# Altium footprint library SMD_components.PcbLib: 42 footprints (part 3 of 3)
Each footprint in its own frame and in the unit in brackets; x right, y up, seen from the top. Pads: shape width x height; smd on the part's side, far side on the other; paste and mask are expansions set on the pad; w line width, h text height; cw(c..) or ccw(c..) is an arc to the next point about the centre after c.
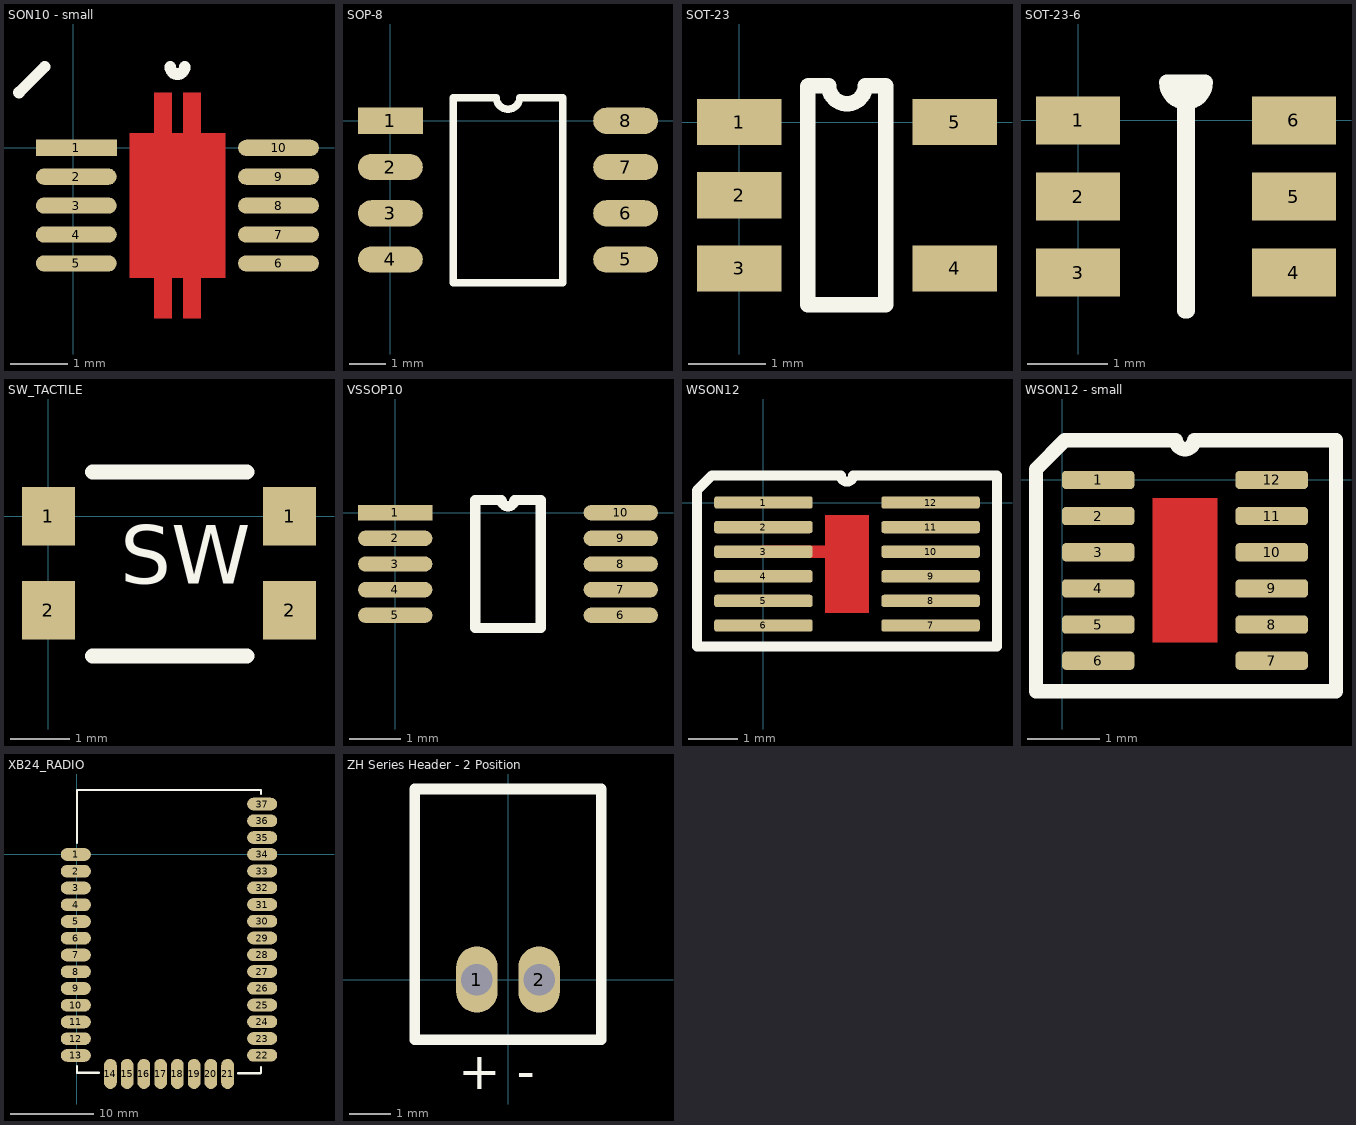
[diagram p2: the footprints below, top view; thin cyan lines are the x and y axes]

## SON10 - small [mm]
pads (10):
  rect 1.4x0.28 smd: 1(0.05,0)
  oval 1.4x0.28 smd: 2(0.05,-0.5) 3(0.05,-1) 4(0.05,-1.5) 5(0.05,-2) 6(3.55,-2) 7(3.55,-1.5) 8(3.55,-1) 9(3.55,-0.5) 10(3.55,0)
Top Layer:
  region: 1.4,0.25 1.4,0.95 1.7,0.95 1.7,0.25 1.9,0.25 1.9,0.95 2.2,0.95 2.2,0.25 2.625,0.25 2.625,-2.25 2.2,-2.25 2.2,-2.95 1.9,-2.95 1.9,-2.25 1.7,-2.25 1.7,-2.95 1.4,-2.95 1.4,-2.25 0.975,-2.25 0.975,0.25
Top Overlay:
  lines w0.2: -0.942,0.958 -0.5,1.4 ; 1.675,1.4 ccw(c1.8,1.4) 1.925,1.4
Top Paste:
  rectangle: 1.92,0.38 2.18,0.88
  rectangle: 1.42,-2.88 1.68,-2.38
  rectangle: 1.92,-2.88 2.18,-2.38
  rectangle: 1.42,0.38 1.68,0.88
  rectangle: 1.9,-2.16 2.59,-1.11
  rectangle: 1.01,-2.16 1.69,-1.11
  rectangle: 1.91,-0.89 2.59,0.16
  rectangle: 1.01,-0.89 1.69,0.16
3D body: height 2, standoff 0, extent 0.005,-2.951 3.647,0.963

## SOP-8 [mm]
pads (8):
  rect 1.78x0.72 smd: 1(0,0)
  oval 1.78x0.72 smd: 2(0,-1.27) 3(0,-2.54) 4(0,-3.81) 5(6.46,-3.81) 6(6.46,-2.54) 7(6.46,-1.27) 8(6.46,0)
Top Overlay:
  lines w0.2: 1.725,-4.445 1.725,0.635 2.912,0.635 ccw(c3.23,0.635) 3.547,0.635 4.735,0.635 4.735,-4.445 1.725,-4.445
3D body: height 2, standoff 0, extent 1.725,-4.445 4.735,0.635

## SOT-23 [mm]
pads (5):
  rect 1.1x0.6 smd: 1(0,0) 2(0,-0.95) 3(0,-1.9) 4(2.8,-1.9) 5(2.8,0)
Top Overlay:
  lines w0.2: 0.889,-2.375 1.905,-2.375 1.905,0.475 1.637,0.475 cw(c1.4,0.475) 1.162,0.475 0.895,0.475 0.889,0.469 0.889,-2.375
3D body: height 2, standoff 0, extent 0.723,-2.188 2.078,0.243

## SOT-23-6 [mm]
pads (6):
  rect 1.05x0.6 smd: 1(0,0) 2(0,-0.95) 3(0,-1.9) 4(2.7,-1.9) 5(2.7,-0.95) 6(2.7,0)
Top Overlay:
  lines w0.2: 1.112,0.475 ccw(c1.35,0.475) 1.587,0.475 1.34,0.475 1.34,-2.375 1.36,-2.375 1.36,0.475 1.112,0.475
3D body: height 2, standoff 0, extent 0.655,-2.188 2.01,0.243

## SW_TACTILE [mm] "KMR231G LFS"
height 1.9
pads (4):
  rect 0.9x1 smd: 1(0,0) 1(4.1,0) 2(0,-1.6) 2(4.1,-1.6)
Top Overlay:
  lines w0.254: 0.75,-2.375 3.375,-2.375 ; 0.75,0.75 3.375,0.75
  text "SW" at 1.225,-1.15 h1
3D body: height 2, standoff 0, extent 0.273,-2.127 3.769,0.547

## VSSOP10 [mm]
pads (10):
  rect 1.45x0.3 smd: 1(0,0)
  oval 1.45x0.3 smd: 2(0,-0.5) 3(0,-1) 4(0,-1.5) 5(0,-2) 6(4.4,-2) 7(4.4,-1.5) 8(4.4,-1) 9(4.4,-0.5) 10(4.4,0)
Top Overlay:
  lines w0.2: 1.56,-2.25 1.56,0.25 2.075,0.25 ccw(c2.2,0.25) 2.325,0.25 2.84,0.25 2.84,-2.25 1.56,-2.25
3D body: height 2, standoff 0, extent 0.932,-2.262 3.478,0.234

## WSON12 [mm]
pads (12):
  rrect40% 2x0.25 smd mask+0.07: 1(0,0) 2(0,-0.5) 3(0,-1) 4(0,-1.5) 5(0,-2) 6(0,-2.5) 7(3.4,-2.5) 8(3.4,-2) 9(3.4,-1.5) 10(3.4,-1) 11(3.4,-0.5) 12(3.4,0)
Top Layer:
  rectangle: 1.25,-2.25 2.15,-0.25
  lines w0.254: 0,-1 1.535,-1
Top Overlay:
  lines w0.2: -1.35,-2.925 -1.35,0.25 -1.05,0.55 1.575,0.55 ccw(c1.7,0.55) 1.825,0.55 4.75,0.55 4.75,-2.925 -1.35,-2.925
  text "." at -1.35,0.95 h1
Top Paste:
  rectangle: 1.25,-2.25 2.15,-1.35
  rectangle: 1.25,-1.15 2.15,-0.25
3D body: height 2, standoff 0, extent 0.47,-2.74 3.016,0.235

## WSON12 - small [mm]
pads (12):
  rrect40% 1x0.25 smd mask+0.07: 1(0.5,0) 2(0.5,-0.5) 3(0.5,-1) 4(0.5,-1.5) 5(0.5,-2) 6(0.5,-2.5) 7(2.9,-2.5) 8(2.9,-2) 9(2.9,-1.5) 10(2.9,-1) 11(2.9,-0.5) 12(2.9,0)
Top Layer:
  rectangle: 1.25,-2.25 2.15,-0.25
Top Overlay:
  lines w0.2: -0.36,-2.925 -0.36,0.15 0.04,0.55 1.575,0.55 ccw(c1.7,0.55) 1.825,0.55 3.788,0.55 3.788,-2.925 -0.36,-2.925
  text "." at -0.657,0.699 h1
Top Paste:
  rectangle: 1.25,-2.25 2.15,-1.35
  rectangle: 1.25,-1.15 2.15,-0.25
3D body: height 2, standoff 0, extent 0.47,-2.74 3.016,0.235

## XB24_RADIO [mm] "XB24CDMUIS-001"
height 3
pads (37):
  oval 3.6x1.52 smd: 1(-0.125,0) 2(-0.125,-2) 3(-0.125,-4) 4(-0.125,-6) 5(-0.125,-8) 6(-0.125,-10) 7(-0.125,-12) 8(-0.125,-14) 9(-0.125,-16) 10(-0.125,-18) 11(-0.125,-20) 12(-0.125,-22) 13(-0.125,-24) 22(22.125,-23.98) 23(22.125,-21.98) 24(22.125,-19.98) 25(22.125,-17.98) 26(22.125,-15.98) 27(22.125,-13.98) 28(22.125,-11.98) 29(22.125,-9.98) 30(22.125,-7.98) 31(22.125,-5.98) 32(22.125,-3.98) 33(22.125,-1.98) 34(22.125,0.02) 35(22.125,2.02) 36(22.125,4.02) 37(22.125,6.02)
  oval 1.52x3.6 smd: 14(4,-26.21) 15(6,-26.21) 16(8,-26.21) 17(10,-26.21) 18(12,-26.21) 19(14,-26.21) 20(16,-26.21) 21(18,-26.21)
Top Overlay:
  lines w0.254: 0,-25.25 0,-26.075 2.625,-26.075 ; 0,1.375 0,7.7 22,7.7 22,7.25 ; 19.275,-26.125 21.95,-26.125 22,-26.075 22,-25.375
3D body: height 4, standoff 2, extent 3.267,-23.466 18.786,-0.091
3D body: height 1.6, standoff 0, extent 0,-26.075 22,7.7

## ZH Series Header - 2 Position [mm]
pads (2):
  oval 1x1.6 hole 0.762: 1(-0.75,0) 2(0.75,0)
Top Overlay:
  lines w0.254: -2.25,-1.45 -2.25,4.6 2.25,4.6 2.25,-1.45 -2.25,-1.45
  text "+ -" at -1.195,-2.642 h0.9